# EAGLE library part WE-FB_LT35XX/LT3748_EP10 (library wurth_elektronik_passive_rev16d)
WE-FB Flyback Transformer LT35xx / LT3748 Characteristics Standard transformers for various output voltages currents available Easy design of custom power supply due to standard circuit and change of transformers and two components for feedback loop Isolation voltage up to 2.5 kV Applications Isolated power design Sensor interfaces Isolated telecom converters Power over Ethernet <http://katalog.we-online.de/media/images/eisos/UtFB_LT_MID_pf2.jpg> Details see: http://katalog.we-online.de/en/pbs/WE-FB_Linear? Updated 2015-04-03 2015 (C) Wurth Elektronik
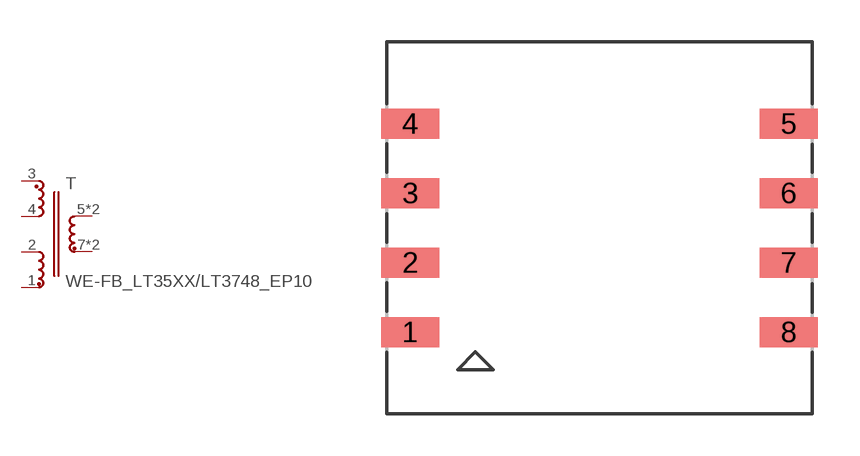
[diagram p81: symbol with the pads of WE-FB_EP10; footprint WE-FB_EP10]

Designator prefix T

## WE-FB_LT35XX/LT3748_EP10_750310471, WE-FB_LT35XX/LT3748_EP10_750310559, WE-FB_LT35XX/LT3748_EP10_750310562, WE-FB_LT35XX/LT3748_EP10_750310563, WE-FB_LT35XX/LT3748_EP10_750311303, WE-FB_LT35XX/LT3748_EP10_750311304, WE-FB_LT35XX/LT3748_EP10_750311305, WE-FB_LT35XX/LT3748_EP10_750311306, WE-FB_LT35XX/LT3748_EP10_750311307, WE-FB_LT35XX/LT3748_EP10_750311308, WE-FB_LT35XX/LT3748_EP10_750311567, WE-FB_LT35XX/LT3748_EP10_750311675  [WE-FB_EP10]
1  4  pas
2  5  pas
3  1  pas
4  6  pas
5  2  pas
6  2  pas
7  3  pas
8  3  pas

## Footprint WE-FB_EP10 (pad centres in mm)
smd 2.08 x 1.07: 1 -6.78,-3.735; 2 -6.78,-1.245; 3 -6.78,1.245; 4 -6.78,3.735; 5 6.78,3.735; 6 6.78,1.245; 7 6.78,-1.245; 8 6.78,-3.735